# Altium schematic symbol library Graisse thermique.SchLib: 1 symbol
Pins are listed as number, name and electrical type; pins without a type are passive.

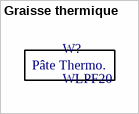
[diagram p0: symbol Graisse thermique]

## Graisse thermique
designator W?, comment WLPF20
Pâte thermoconductrice 0.7W/mK 10ml WLPF20 Fischer elektronik; IsStocked: 1; PN: WLPF20; Supplier 1: ETML; Supplier Part Number 1: MAG 369.123; Supplier Price 1: 12.83
text: Pâte Thermo.